# Altium footprint library TP_5010.PcbLib: 1 footprints
Each footprint in its own frame and in the unit in brackets; x right, y up, seen from the top. Pads: shape width x height; smd on the part's side, far side on the other; paste and mask are expansions set on the pad; w line width, h text height; cw(c..) or ccw(c..) is an arc to the next point about the centre after c.
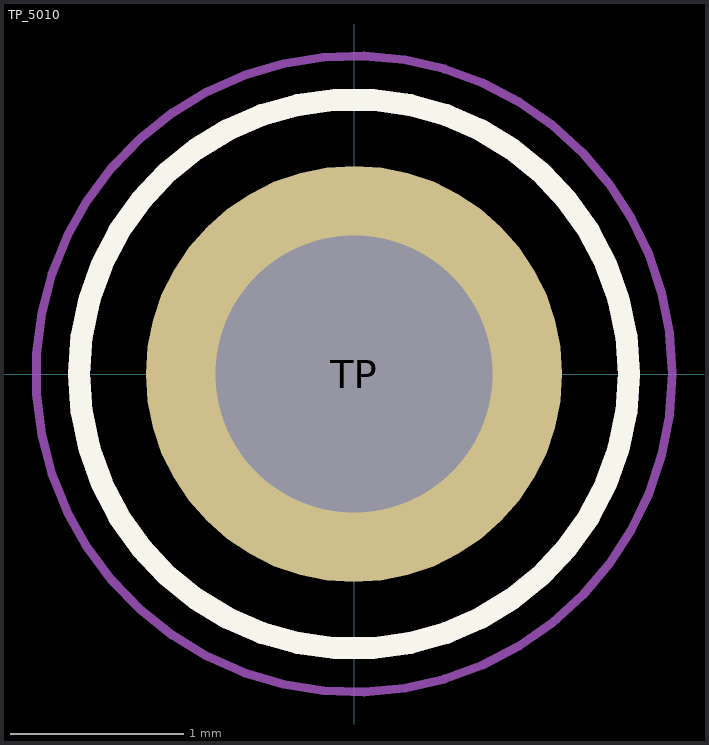
[diagram p0: the footprint, top view; thin cyan lines are the x and y axes]

## TP_5010 [mm]
height 8.13
pads (1):
  round 2.4 hole 1.6: TP(0,0)
Top Overlay:
  circle w0.127: c0,0 r1.585
Assembly Top:
  circle w0.127: c0,0 r1.585
Courtyard Top:
  circle w0.05: c0,0 r1.835
3D body "step_temp.STEP": height 8.13, standoff -3.56, extent -1.587,-1.587 1.587,1.587